# Altium integrated library HEATSINK-150-20-16MM.IntLib: 1 symbol
Pins are listed as number, name and electrical type; pins without a type are passive.

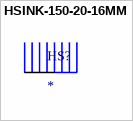
[diagram p0: symbol HSINK-150-20-16MM]

## HSINK-150-20-16MM
designator HS?
Aluminum Heatsink 150x19.7x15.6mm
footprint HSINK-150-20-16MM (Heat Sink Cooler Radiator)
pins: 1 S, 1 S